# Altium schematic symbol library 2MS1T2B2M6QES.SchLib: 1 symbol
Pins are listed as number, name and electrical type; pins without a type are passive.

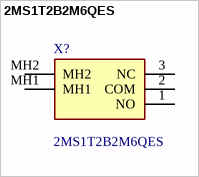
[diagram p0: symbol 2MS1T2B2M6QES]

## 2MS1T2B2M6QES
designator X?
Toggle Switches SPDT ON-ON RT ANG PC; Manufacturer_Name: Dailywell; Geometry.Height: 5.59mm; Mouser Part Number: 118-2MS1T2B2M6QES; Mouser Price/Stock: https://www.mouser.co.uk/ProductDetail/Dailywell/2MS1T2B2M6QES?qs=B6kkDfuK7%2FCL9Qu4QtdHDw%3D%3D; Manufacturer_Part_Number: 2MS1T2B2M6QES; Datasheet Link: https://www.mouser.co.il/datasheet/2/979/Dailywell_01132020_2M_Series-1708785.pdf
footprint 2MS1T2B2M6QES
pins: 1 NO, 2 COM, 3 NC, MH1, MH2